# Altium footprint library FOOTPRINT Library V1.PcbLib: 3 footprints
Each footprint in its own frame and in the unit in brackets; x right, y up, seen from the top. Pads: shape width x height; smd on the part's side, far side on the other; paste and mask are expansions set on the pad; w line width, h text height; cw(c..) or ccw(c..) is an arc to the next point about the centre after c.
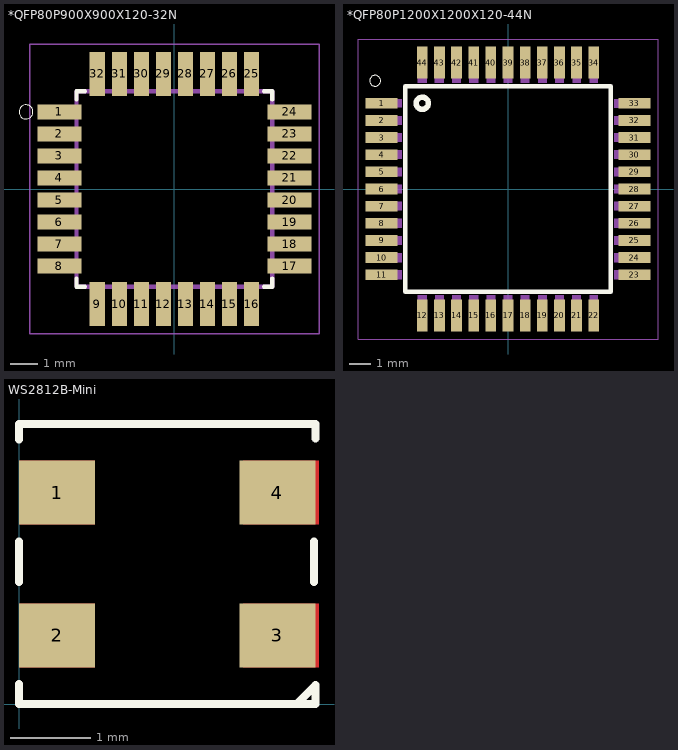
[diagram p0: the footprints below, top view; thin cyan lines are the x and y axes]

## *QFP80P900X900X120-32N [mm]
pads (32):
  rect 1.6x0.55 smd: 1(-4.18,2.8) 2(-4.18,2) 3(-4.18,1.2) 4(-4.18,0.4) 5(-4.18,-0.4) 6(-4.18,-1.2) 7(-4.18,-2) 8(-4.18,-2.8) 17(4.18,-2.8) 18(4.18,-2) 19(4.18,-1.2) 20(4.18,-0.4) 21(4.18,0.4) 22(4.18,1.2) 23(4.18,2) 24(4.18,2.8)
  rect 0.55x1.6 smd: 9(-2.8,-4.18) 10(-2,-4.18) 11(-1.2,-4.18) 12(-0.4,-4.18) 13(0.4,-4.18) 14(1.2,-4.18) 15(2,-4.18) 16(2.8,-4.18) 25(2.8,4.18) 26(2,4.18) 27(1.2,4.18) 28(0.4,4.18) 29(-0.4,4.18) 30(-1.2,4.18) 31(-2,4.18) 32(-2.8,4.18)
Top Overlay:
  circle w0: c-5.389,2.8 r0.254
  lines w0.152: -3.55,-3.25 -3.55,-3.55 -3.25,-3.55 ; -3.55,3.25 -3.55,3.55 -3.25,3.55 ; 3.25,-3.55 3.55,-3.55 3.55,-3.25 ; 3.25,3.55 3.55,3.55 3.55,3.25
Mechanical 4:
  lines w0.152: -3.55,-3.55 3.55,-3.55 ; -3.55,-3.55 -3.55,3.55 ; -3.55,-3.55 3.55,-3.55 ; -3.55,-3.55 -3.55,3.55 ; -3.55,3.55 3.55,3.55 ; -3.55,3.55 3.55,3.55 ; 3.55,-3.55 3.55,3.55 ; 3.55,-3.55 3.55,3.55
Mechanical 16:
  lines w0.05: -5.25,-5.25 5.25,-5.25 5.25,5.25 -5.25,5.25 -5.25,-5.25
3D body "User Library-Atmel Atmega 48p Case 32A.step": height 1.15, standoff -0.05, extent -4.506,-4.506 4.506,4.506

## *QFP80P1200X1200X120-44N [mm]
pads (44):
  rect 1.5x0.5 smd: 1(-5.9,4) 2(-5.9,3.2) 3(-5.9,2.4) 4(-5.9,1.6) 5(-5.9,0.8) 6(-5.9,0) 7(-5.9,-0.8) 8(-5.9,-1.6) 9(-5.9,-2.4) 10(-5.9,-3.2) 11(-5.9,-4) 23(5.9,-4) 24(5.9,-3.2) 25(5.9,-2.4) 26(5.9,-1.6) 27(5.9,-0.8) 28(5.9,0) 29(5.9,0.8) 30(5.9,1.6) 31(5.9,2.4) 32(5.9,3.2) 33(5.9,4)
  rect 0.5x1.5 smd: 12(-4,-5.9) 13(-3.2,-5.9) 14(-2.4,-5.9) 15(-1.6,-5.9) 16(-0.8,-5.9) 17(0,-5.9) 18(0.8,-5.9) 19(1.6,-5.9) 20(2.4,-5.9) 21(3.2,-5.9) 22(4,-5.9) 34(4,5.9) 35(3.2,5.9) 36(2.4,5.9) 37(1.6,5.9) 38(0.8,5.9) 39(0,5.9) 40(-0.8,5.9) 41(-1.6,5.9) 42(-2.4,5.9) 43(-3.2,5.9) 44(-4,5.9)
Top Overlay:
  circle w0: c-6.2,5.05 r0.254
  circle w0.254: c-4,4 r0.283
  lines w0.203: -4.8,-4.8 -4.8,4.8 4.8,4.8 4.8,-4.8 -4.8,-4.8
Mechanical 4:
  drawing of 88 lines, arcs and shapes, not listed
Mechanical 16:
  lines w0.05: -7,-7 -7,7 7,7 7,-7 -7,-7
3D body "User Library-TQFP44-2.step": height 1, standoff -0.15, extent -6.012,-6.012 6.012,6.012

## WS2812B-Mini [mm] "RGB LED"
pads (4):
  rect 0.95x0.8 smd paste+0: 1(0.475,2.64) 2(0.475,0.86) 3(3.225,0.86) 4(3.225,2.64)
Top Layer:
  rectangle: 0,0.46 0.95,1.26
  rectangle: 0,2.24 0.95,3.04
  rectangle: 2.794,2.24 3.744,3.04
  rectangle: 2.794,0.46 3.744,1.26
Top Overlay:
  lines w0.1: 0,0.254 0,0 3.7,0 3.7,0.237 3.463,0 3.175,0 ; 0,1.524 0,2.032 ; 0,3.302 0,3.5 3.7,3.5 3.7,3.319 ; 3.683,1.524 3.683,2.032
3D body: height 1, standoff 0.1, extent 0,0 3.7,3.5
3D body: height 4.51, standoff -4.51, extent 1.9,1.8 1.9,1.8
3D body: height 1.2, standoff 0.2, extent 0.908,0.802 2.9,2.798
3D body: height 1.1, standoff 0, extent 3.2,0.1 3.6,0.5